# EAGLE library part 74*00? (library 74xx)
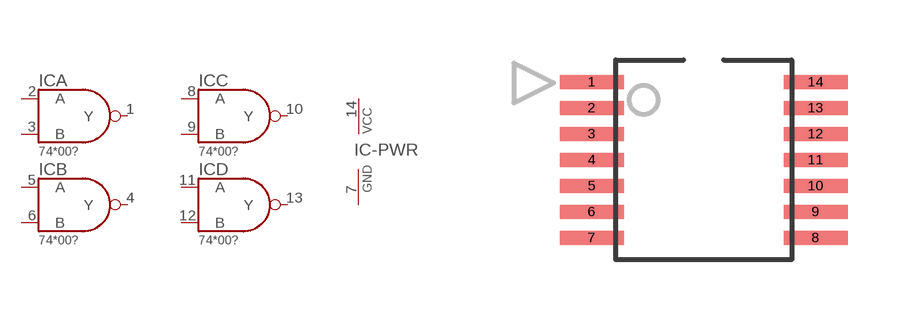
[diagram p7: symbol with the pads of TSSOP-14; footprint TSSOP-14]

Designator prefix IC; gates A=74X00 B=74X00 C=74X00 D=74X00 -PWR=PWRN

## 74AHC00PW (MARK: HA00; MF: Texas Instruments; MPN: SN74AHC00PWR), 74LVC00PW (MARK: LC00A; MF: Texas Instruments; MPN: SN74LVC00APW)  [TSSOP-14]
1  A:Y  out
2  A:A  in
3  A:B  in
4  B:Y  out
5  B:A  in
6  B:B  in
7  -PWR:GND  pwr
8  C:A  in
9  C:B  in
10  C:Y  out
11  D:A  in
12  D:B  in
13  D:Y  out
14  -PWR:VCC  pwr

## Footprint TSSOP-14 (pad centres in mm)
smd 1.6 x 0.35: 1 -2.8,1.95; 2 -2.8,1.3; 3 -2.8,0.65; 4 -2.8,0; 5 -2.8,-0.65; 6 -2.8,-1.3; 7 -2.8,-1.95; 8 2.8,-1.95; 9 2.8,-1.3; 10 2.8,-0.65; 11 2.8,0; 12 2.8,0.65; 13 2.8,1.3; 14 2.8,1.95